# Altium schematic symbol library MUX_ADG706_1.Schlib: 1 symbol
Pins are listed as number, name and electrical type; pins without a type are passive.

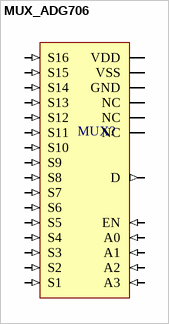
[diagram p0: symbol MUX_ADG706]

## MUX_ADG706
designator MUX?
footprint TSOP65P640X120-28N (TSOP, 28-Leads, Body 9.70x4.40mm, Pitch 0.65mm, IPC Medium Density)
pins: 1 VDD (power), 2 NC, 3 NC, 4 S16 (in), 5 S15 (in), 6 S14 (in), 7 S13 (in), 8 S12 (in), 9 S11 (in), 10 S10 (in), 11 S9 (in), 12 GND (power), 13 NC, 14 A3 (in), 15 A2 (in), 16 A1 (in), 17 A0 (in), 18 EN (in), 19 S1 (in), 20 S2 (in), 21 S3 (in), 22 S4 (in), 23 S5 (in), 24 S6 (in), 25 S7 (in), 26 S8 (in), 27 VSS (power), 28 D (out)